# Altium footprint library Транзистор Die.PcbLib: 1 footprints
Each footprint in its own frame and in the unit in brackets; x right, y up, seen from the top. Pads: shape width x height; smd on the part's side, far side on the other; paste and mask are expansions set on the pad; w line width, h text height; cw(c..) or ccw(c..) is an arc to the next point about the centre after c.
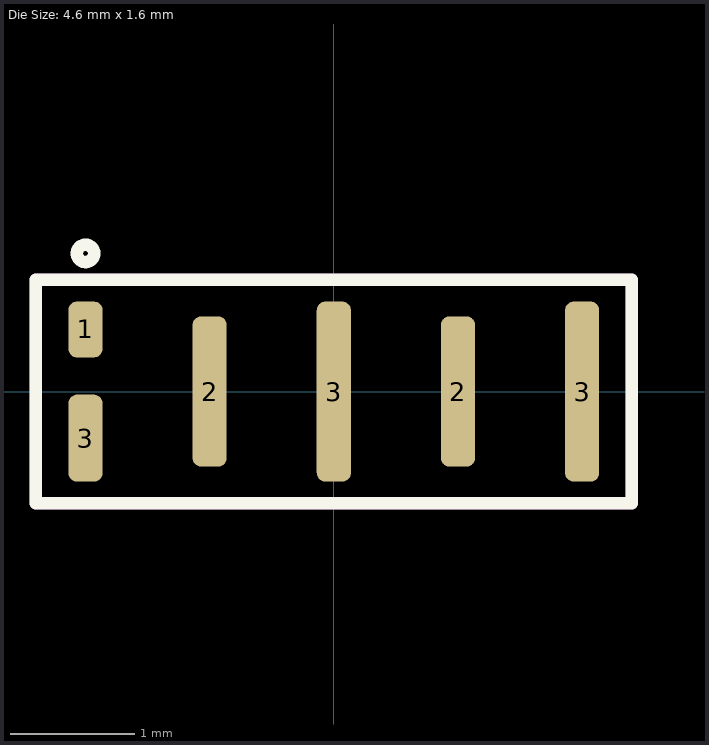
[diagram p0: the footprint, top view; thin cyan lines are the x and y axes]

## Die Size: 4.6 mm x 1.6 mm [mm]
pads (6):
  rrect50% 0.275x0.45 smd: 1(-2,0.5)
  rrect50% 0.275x1.21 smd: 2(-1,0) 2(1,0)
  rrect50% 0.275x0.7 smd: 3(-2,-0.375)
  rrect50% 0.275x1.45 smd: 3(0,0) 3(2,0)
Top Overlay:
  circle w0.1: c-2,1.112 r0.07
  lines w0.1: -2.4,-0.9 -2.4,0.9 2.4,0.9 2.4,-0.9 -2.4,-0.9
Border:
  lines w0.1: -2.4,-0.9 -2.4,0.9 2.4,0.9 2.4,-0.9 -2.4,-0.9
3D body "EPC2215.stp": height 0.64, standoff 0, extent -2.3,-0.8 2.3,0.8